# Altium schematic symbol library SCH - MCU - NUVOTON - NUVOTON NUC200SD2AN.SchLib: 1 symbol
Pins are listed as number, name and electrical type; pins without a type are passive.

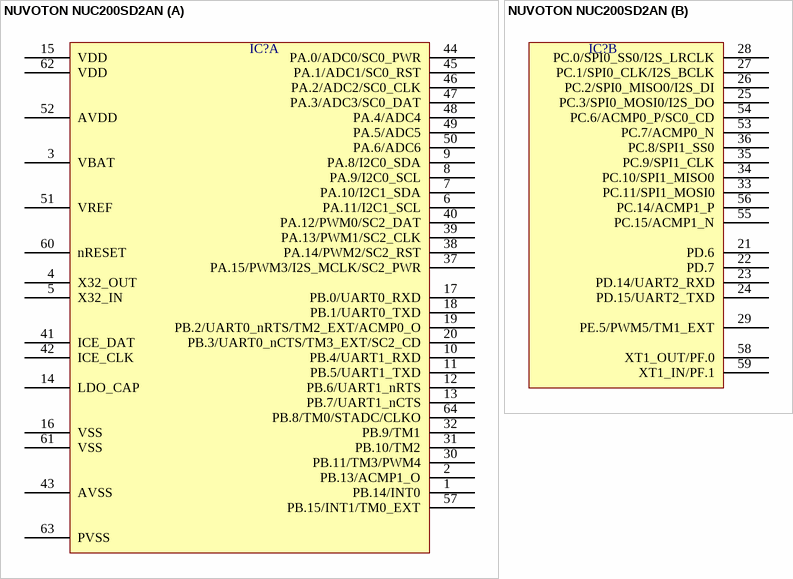
[diagram p0: symbol NUVOTON NUC200SD2AN]

## NUVOTON NUC200SD2AN
designator IC?  (value not drawn)
part A pins: 1 PB.14/INT0, 2 PB.13/ACMP1_O, 3 VBAT, 4 X32_OUT, 5 X32_IN, 6 PA.11/I2C1_SCL, 7 PA.10/I2C1_SDA, 8 PA.9/I2C0_SCL, 9 PA.8/I2C0_SDA, 10 PB.4/UART1_RXD, 11 PB.5/UART1_TXD, 12 PB.6/UART1_nRTS, 13 PB.7/UART1_nCTS, 14 LDO_CAP, 15 VDD, 16 VSS, 17 PB.0/UART0_RXD, 18 PB.1/UART0_TXD, 19 PB.2/UART0_nRTS/TM2_EXT/ACMP0_O, 20 PB.3/UART0_nCTS/TM3_EXT/SC2_CD, 30 PB.11/TM3/PWM4, 31 PB.10/TM2, 32 PB.9/TM1, 37 PA.15/PWM3/I2S_MCLK/SC2_PWR, 38 PA.14/PWM2/SC2_RST, 39 PA.13/PWM1/SC2_CLK, 40 PA.12/PWM0/SC2_DAT, 41 ICE_DAT, 42 ICE_CLK, 43 AVSS, 44 PA.0/ADC0/SC0_PWR, 45 PA.1/ADC1/SC0_RST, 46 PA.2/ADC2/SC0_CLK, 47 PA.3/ADC3/SC0_DAT, 48 PA.4/ADC4, 49 PA.5/ADC5, 50 PA.6/ADC6, 51 VREF, 52 AVDD, 57 PB.15/INT1/TM0_EXT, 60 nRESET, 61 VSS, 62 VDD, 63 PVSS, 64 PB.8/TM0/STADC/CLKO
part B pins: 21 PD.6, 22 PD.7, 23 PD.14/UART2_RXD, 24 PD.15/UART2_TXD, 25 PC.3/SPI0_MOSI0/I2S_DO, 26 PC.2/SPI0_MISO0/I2S_DI, 27 PC.1/SPI0_CLK/I2S_BCLK, 28 PC.0/SPI0_SS0/I2S_LRCLK, 29 PE.5/PWM5/TM1_EXT, 33 PC.11/SPI1_MOSI0, 34 PC.10/SPI1_MISO0, 35 PC.9/SPI1_CLK, 36 PC.8/SPI1_SS0, 53 PC.7/ACMP0_N, 54 PC.6/ACMP0_P/SC0_CD, 55 PC.15/ACMP1_N, 56 PC.14/ACMP1_P, 58 XT1_OUT/PF.0, 59 XT1_IN/PF.1